# Altium footprint library 68800411722.PcbLib: 1 footprints
Each footprint in its own frame and in the unit in brackets; x right, y up, seen from the top. Pads: shape width x height; smd on the part's side, far side on the other; paste and mask are expansions set on the pad; w line width, h text height; cw(c..) or ccw(c..) is an arc to the next point about the centre after c.
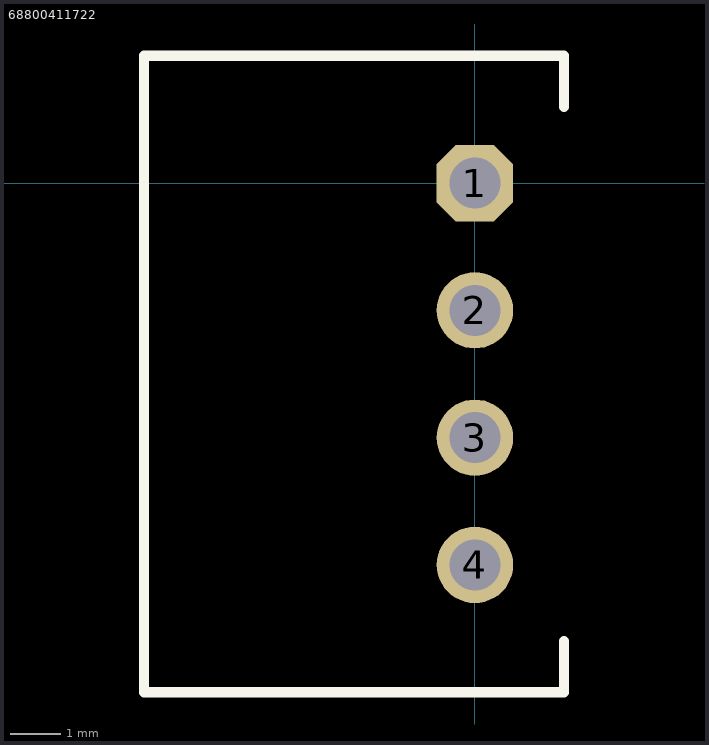
[diagram p0: the footprint, top view; thin cyan lines are the x and y axes]

## 68800411722 [mm]
pads (4):
  oct 1.5x1.5 hole 1 mask+0.05: 1(0,0)
  round 1.5 hole 1 mask+0.05: 2(0,-2.5) 3(0,-5) 4(0,-7.5)
Top Overlay:
  lines w0.2: 1.75,-9 1.75,-10 -6.5,-10 -6.5,2.5 1.75,2.5 1.75,1.5
3D body "68800411722 (rev1).stp": height 4.3, standoff -3.2, extent -6.5,-10 1.8,2.5